# EAGLE library part 338070-08 (library con-te-micro-match)
RECEPTACAL
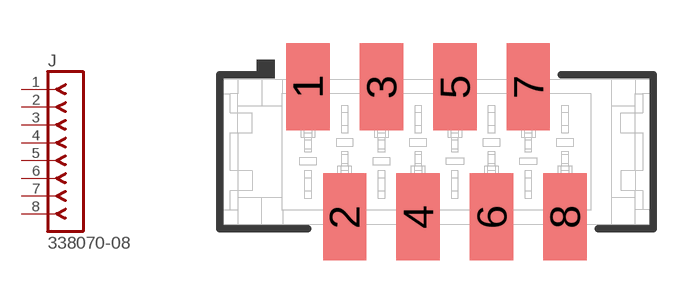
[diagram p1: symbol with the pads of 338070-08; footprint 338070-08]

Designator prefix J

## 338070-08  [338070-08]
1  1  pas
2  2  pas
3  3  pas
4  4  pas
5  5  pas
6  6  pas
7  7  pas
8  8  pas

## Footprint 338070-08 (pad centres in mm)
RECEPTACAL
smd 1.5 x 3: 1 -4.445,2.25; 2 -3.175,-2.25; 3 -1.905,2.25; 4 -0.635,-2.25; 5 0.635,2.25; 6 1.905,-2.25; 7 3.175,2.25; 8 4.445,-2.25